# Altium footprint library Thermometer.PcbLib: 36 footprints (part 3 of 3)
Each footprint in its own frame and in the unit in brackets; x right, y up, seen from the top. Pads: shape width x height; smd on the part's side, far side on the other; paste and mask are expansions set on the pad; w line width, h text height; cw(c..) or ccw(c..) is an arc to the next point about the centre after c.
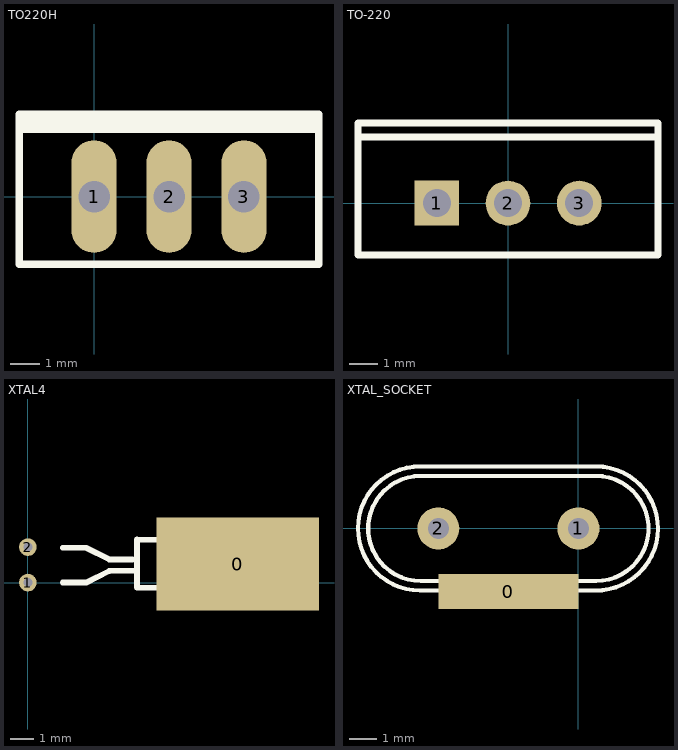
[diagram p2: the footprints below, top view; thin cyan lines are the x and y axes]

## TO220H [mil]
pads (3):
  oval 60x150 hole 42: 1(0,0.01) 2(100,0.01) 3(200,0.01)
Top Overlay:
  lines w10: -100,90.01 300,90.01 ; -100,100.01 300,100.01 ; -100,-89.99 -100,110.01 300,110.01 300,-89.99 -100,-89.99

## TO-220 [mm]
pads (3):
  rect 1.6x1.6 hole 1: 1(-2.54,0)
  round 1.6 hole 1: 2(0,0) 3(2.54,0)
Top Overlay:
  lines w0.254: -5.35,2.35 5.35,2.35 ; -5.35,-1.85 5.35,-1.85 5.35,2.85 -5.35,2.85 -5.35,-1.85

## XTAL4 [mil]
pads (3):
  rect 275.59x157.48 smd: 0(355.28,31.5)
  round 30 hole 15: 1(0,0) 2(0,60)
Top Overlay:
  lines w10: 59.05,0 98.74,0 ; 59.05,59.05 98.74,59.05 ; 98.42,0 137.79,19.68 183.74,20 ; 98.42,59.05 137.79,39.37 177.48,39.37 ; 184.74,-8 184.74,73 420.74,72 420.74,-9 184.74,-8

## XTAL_SOCKET [mil]
pads (3):
  rect 200x50 smd: 0(-100,-90)
  round 60 hole 30: 1(0,0) 2(-200,0)
Top Overlay:
  lines w6: -226,-88.58 cw(c-226,0) -225.09,88.58 25,88.58 cw(c25,0) 24.07,-88.58 -226,-88.58 ; -225,-75 cw(c-225,0) -225,75 25,75 cw(c25,0) 25,-75 -225,-75